# Altium footprint library stratos.PcbLib: 39 footprints (part 1 of 3)
Each footprint in its own frame and in the unit in brackets; x right, y up, seen from the top. Pads: shape width x height; smd on the part's side, far side on the other; paste and mask are expansions set on the pad; w line width, h text height; cw(c..) or ccw(c..) is an arc to the next point about the centre after c.
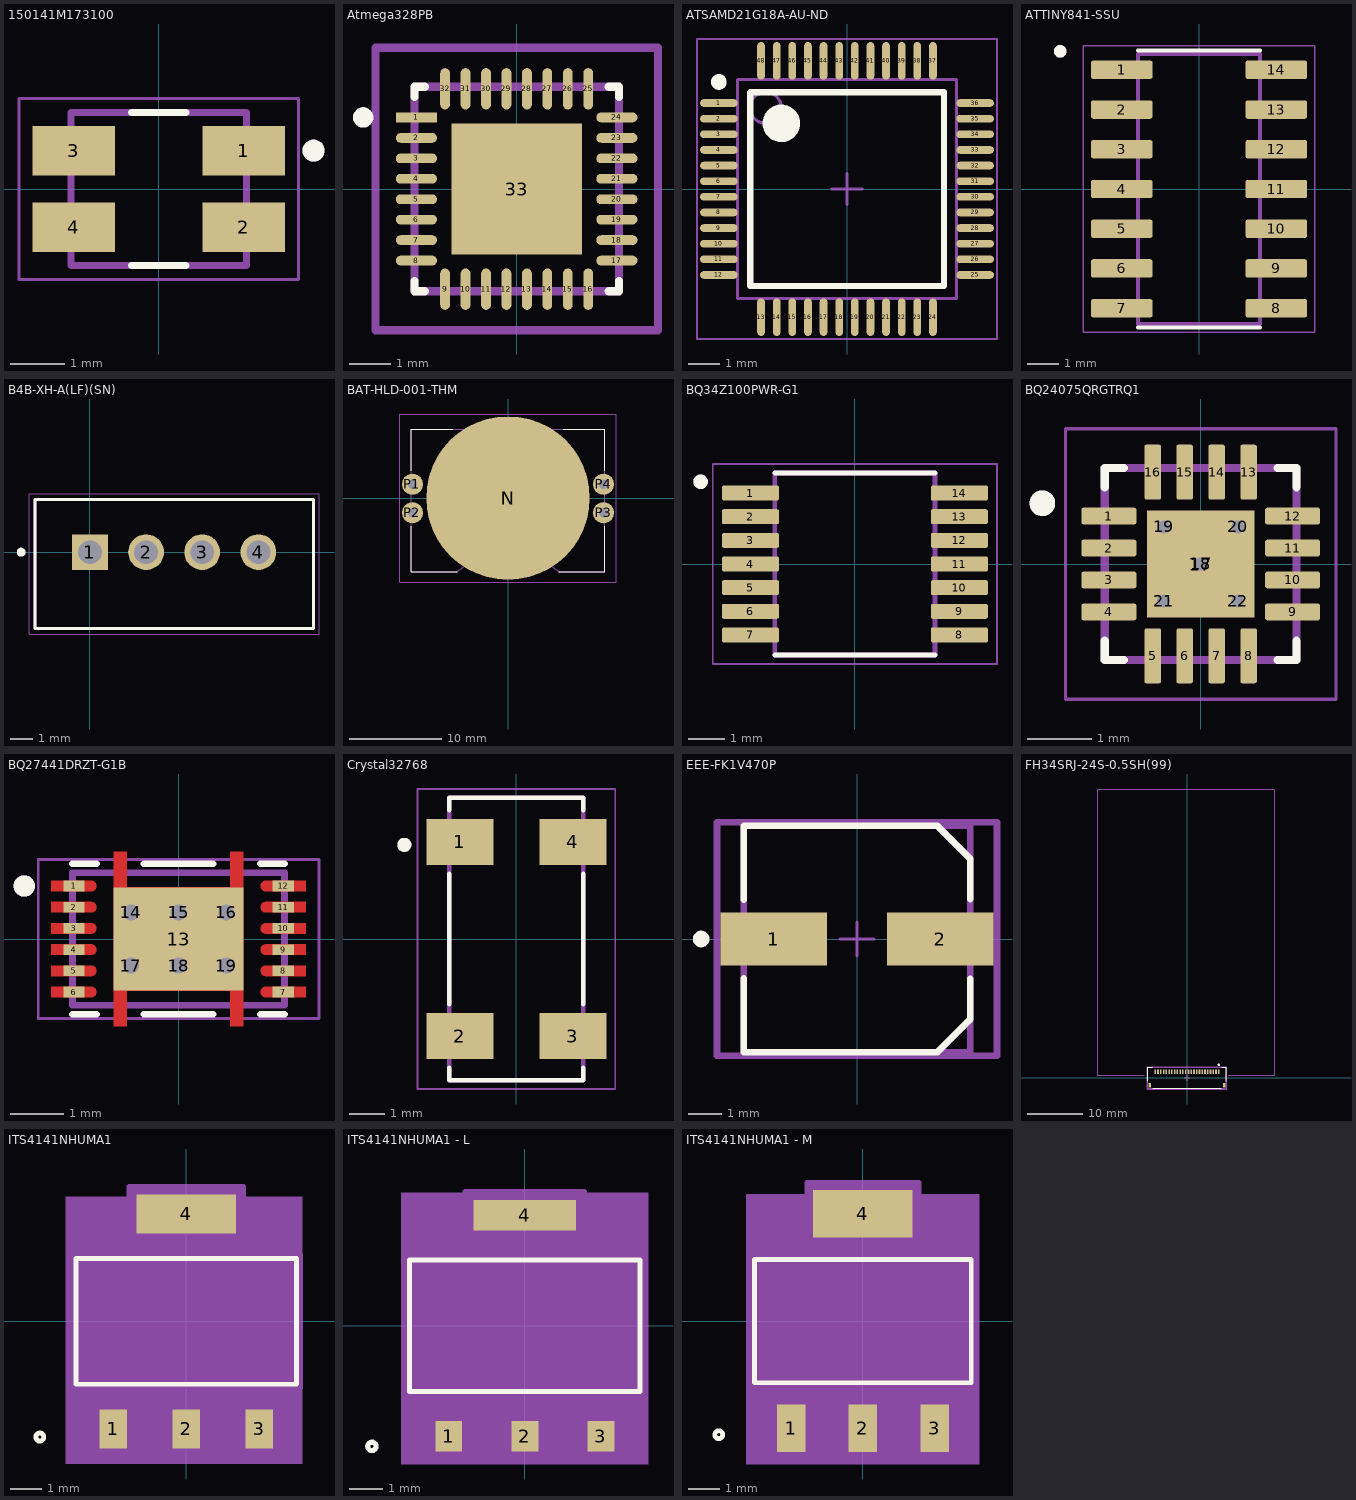
[diagram p0: the footprints below, top view; thin cyan lines are the x and y axes]

## 150141M173100 [mm] "RGB LED 3528 SMD"
pads (4):
  rect 1.5x0.9 smd: 1(1.55,0.7) 2(1.55,-0.7) 3(-1.55,0.7) 4(-1.55,-0.7)
Top Overlay:
  circle w0.2: c2.825,0.7 r0.1
  lines w0.127: -0.5,-1.4 0.5,-1.4 ; -0.5,1.4 0.5,1.4
Mechanical 29:
  circle w0.2: c2.825,0.7 r0.1
  lines w0.127: -1.6,-1.4 -1.6,1.4 1.6,1.4 1.6,-1.4 -1.6,-1.4
Mechanical 15:
  lines w0.05: -2.55,-1.65 2.55,-1.65 2.55,1.65 -2.55,1.65 -2.55,-1.65
3D body "LED_RGB_150141M173100.stp": height 1.86, standoff -0.04, extent -1.75,-1.4 1.75,1.4

## Atmega328PB [mm]
pads (33):
  rect 1.01x0.239 smd paste+0 mask+0: 1(-2.451,1.75)
  rrect100% 1.01x0.239 smd paste+0 mask+0: 2(-2.451,1.25) 3(-2.451,0.75) 4(-2.451,0.25) 5(-2.451,-0.25) 6(-2.451,-0.75) 7(-2.451,-1.25) 8(-2.451,-1.75) 17(2.451,-1.75) 18(2.451,-1.25) 19(2.451,-0.75) 20(2.451,-0.25) 21(2.451,0.25) 22(2.451,0.75) 23(2.451,1.25) 24(2.451,1.75)
  rrect100% 0.239x1.01 smd paste+0 mask+0: 9(-1.75,-2.451) 10(-1.25,-2.451) 11(-0.75,-2.451) 12(-0.25,-2.451) 13(0.25,-2.451) 14(0.75,-2.451) 15(1.25,-2.451) 16(1.75,-2.451) 25(1.75,2.451) 26(1.25,2.451) 27(0.75,2.451) 28(0.25,2.451) 29(-0.25,2.451) 30(-0.75,2.451) 31(-1.25,2.451) 32(-1.75,2.451)
  rect 3.2x3.2 smd paste-1000 mask+0: 33(0,0)
Top Overlay:
  circle w0.25: c-3.756,1.75 r0.125
  lines w0.2: -2.5,-2.25 -2.5,-2.5 -2.25,-2.5 ; -2.5,2.25 -2.5,2.5 -2.25,2.5 ; 2.25,-2.5 2.5,-2.5 2.5,-2.25 ; 2.25,2.5 2.5,2.5 2.5,2.25
Top Paste:
  rectangle: -1.012,-1.012 1.012,1.012
Mechanical 5:
  lines w0.2: -3.456,-3.456 -3.456,3.456 3.456,3.456 3.456,-3.456 -3.456,-3.456
  text ".Designator" at 0,0.188 h1
Mechanical 29:
  lines w0.2: -2.5,-2.5 -2.5,2.5 2.5,2.5 2.5,-2.5 -2.5,-2.5
Mechanical 15:
  lines w0.2: -3.456,-3.456 -3.456,3.456 3.456,3.456 3.456,-3.456 -3.456,-3.456
Mechanical 16:
  lines w0.1: -0.5,0 0.5,0 ; 0,-0.5 0,0.5
3D body "IC_Microchip_ATMEGA328PB-MUR_eec.STEP": height 0.25, standoff 0, extent -3.456,-3.456 3.456,3.456

## ATSAMD21G18A-AU-ND [mm] "IC MCU 32BIT 256KB FLASH 48TQFP"
pads (48):
  oval 1.2x0.25 smd: 1(-4.1,2.75) 2(-4.1,2.25) 3(-4.1,1.75) 4(-4.1,1.25) 5(-4.1,0.75) 6(-4.1,0.25) 7(-4.1,-0.25) 8(-4.1,-0.75) 9(-4.1,-1.25) 10(-4.1,-1.75) 11(-4.1,-2.25) 12(-4.1,-2.75) 25(4.1,-2.75) 26(4.1,-2.25) 27(4.1,-1.75) 28(4.1,-1.25) 29(4.1,-0.75) 30(4.1,-0.25) 31(4.1,0.25) 32(4.1,0.75) 33(4.1,1.25) 34(4.1,1.75) 35(4.1,2.25) 36(4.1,2.75)
  oval 0.25x1.2 smd: 13(-2.75,-4.1) 14(-2.25,-4.1) 15(-1.75,-4.1) 16(-1.25,-4.1) 17(-0.75,-4.1) 18(-0.25,-4.1) 19(0.25,-4.1) 20(0.75,-4.1) 21(1.25,-4.1) 22(1.75,-4.1) 23(2.25,-4.1) 24(2.75,-4.1) 37(2.75,4.1) 38(2.25,4.1) 39(1.75,4.1) 40(1.25,4.1) 41(0.75,4.1) 42(0.25,4.1) 43(-0.25,4.1) 44(-0.75,4.1) 45(-1.25,4.1) 46(-1.75,4.1) 47(-2.25,4.1) 48(-2.75,4.1)
Top Overlay:
  circle w0.6: c-2.1,2.1 r0.3
  circle w0.25: c-4.1,3.425 r0.125
  lines w0.2: -3.1,-3.1 3.1,-3.1 3.1,3.1 -3.1,3.1 -3.1,-3.1
Mechanical 29:
  circle w0.1: c-2.6,2.6 r0.5
  lines w0.1: -3.5,-3.5 3.5,-3.5 3.5,3.5 -3.5,3.5 -3.5,-3.5
Mechanical 15:
  lines w0.05: -4.8,-4.8 4.8,-4.8 4.8,4.8 -4.8,4.8 -4.8,-4.8
  lines w0.1: -0.5,0 0.5,0 ; 0,-0.5 0,0.5
3D body "TSQFP50P900X900X120-48L.step": height 1.2, standoff 0, extent -4.5,-4.5 4.5,4.5

## ATTINY841-SSU [mm] "IC MCU 8BIT 8KB FLASH 14SOIC"
pads (14):
  rrect25% 1.97x0.59 smd: 1(-2.47,3.81) 2(-2.47,2.54) 3(-2.47,1.27) 4(-2.47,0) 5(-2.47,-1.27) 6(-2.47,-2.54) 7(-2.47,-3.81) 8(2.47,-3.81) 9(2.47,-2.54) 10(2.47,-1.27) 11(2.47,0) 12(2.47,1.27) 13(2.47,2.54) 14(2.47,3.81)
Top Overlay:
  circle w0.2: c-4.44,4.4 r0.1
  lines w0.127: -1.947,-4.425 1.947,-4.425 ; -1.947,4.425 1.947,4.425
Mechanical 29:
  circle w0.2: c-4.44,4.4 r0.1
  lines w0.127: -1.947,-4.323 1.947,-4.323 1.947,4.323 -1.947,4.323 -1.947,-4.323
Mechanical 15:
  lines w0.05: -3.705,-4.573 3.705,-4.573 3.705,4.573 -3.705,4.573 -3.705,-4.573
3D body "ATTINY841-SSU--3DModel-STEP-1.STEP": height 1.75, standoff 0, extent -2.997,-4.322 2.998,4.323

## B4B-XH-A(LF)(SN) [mm] "CONN HEADER VERT 4POS 2.5MM"
pads (4):
  rect 1.59x1.59 hole 1.06: 1(0,0)
  round 1.59 hole 1.06: 2(2.5,0) 3(5,0) 4(7.5,0)
Top Overlay:
  circle w0.2: c-3.06,0 r0.1
  lines w0.127: -2.45,-3.4 -2.45,2.35 9.95,2.35 9.95,-3.4 -2.45,-3.4
Mechanical 29:
  lines w0.127: -2.45,-3.4 -2.45,2.35 9.95,2.35 9.95,-3.4 -2.45,-3.4
Mechanical 15:
  lines w0.05: -2.7,-3.65 -2.7,2.6 10.2,2.6 10.2,-3.65 -2.7,-3.65
3D body "step_temp.STEP": height 7, standoff -3.4, extent -2.45,-3.4 9.95,2.35

## BAT-HLD-001-THM [mm] "BATTERY RETAINER COIN PC PIN"
pads (5):
  round 17.8 smd paste-10: N(0,0)
  round 2.3 hole 1: P1(-10.4,1.5) P2(-10.4,-1.6) P3(10.4,-1.6) P4(10.4,1.5)
Top Overlay:
  lines w0.127: -10.55,-3.07 -10.55,-8 -5.5,-8 ; -10.55,2.97 -10.55,7.5 -6,7.5 ; 5.5,-8 10.55,-8 10.55,-3.07 ; 6,7.5 10.55,7.5 10.55,2.97
Mechanical 29:
  lines w0.127: -5.558,-8.048 cw(c0.071,-14.756) 0.071,-6 ; -5.5,-8 -10.55,-8 -10.55,7.5 10.55,7.5 10.55,-8 5.5,-8 ; -0.071,-6 cw(c-0.071,-14.756) 5.558,-8.048
Mechanical 15:
  lines w0.05: -11.8,-9.15 11.8,-9.15 11.8,9.15 -11.8,9.15 -11.8,-9.15
3D body "Batt_Linx_BAT-HLD-001-THM_eec.STEP": height 4.21, standoff -3.19, extent -10.55,-7.529 10.55,7.971

## BQ34Z100PWR-G1 [mm] "Fuel Gauge"
pads (14):
  rrect25% 1.57x0.41 smd: 1(-2.87,1.95) 2(-2.87,1.3) 3(-2.87,0.65) 4(-2.87,0) 5(-2.87,-0.65) 6(-2.87,-1.3) 7(-2.87,-1.95) 8(2.87,-1.95) 9(2.87,-1.3) 10(2.87,-0.65) 11(2.87,0) 12(2.87,0.65) 13(2.87,1.3) 14(2.87,1.95)
Top Overlay:
  circle w0.2: c-4.24,2.26 r0.1
  lines w0.127: -2.2,-2.5 2.2,-2.5 ; -2.2,2.5 2.2,2.5
Mechanical 15:
  lines w0.05: -3.905,-2.75 3.905,-2.75 3.905,2.75 -3.905,2.75 -3.905,-2.75
Mechanical 29 (Mech29):
  circle w0.2: c-4.24,2.26 r0.1
  lines w0.127: -2.2,-2.5 -2.2,2.5 2.2,2.5 2.2,-2.5 -2.2,-2.5
3D body "BQ34Z100PWR-G1.STEP": height 1.2, standoff 0, extent -3.2,-2.5 3.2,2.5

## BQ24075QRGTRQ1 [mm] "Charger IC Lithium Ion 16-VQFN (3x3)"
pads (22):
  rrect25% 0.86x0.26 smd: 1(-1.435,0.75) 2(-1.435,0.25) 3(-1.435,-0.25) 4(-1.435,-0.75) 9(1.435,-0.75) 10(1.435,-0.25) 11(1.435,0.25) 12(1.435,0.75)
  rrect25% 0.26x0.86 smd: 5(-0.75,-1.435) 6(-0.25,-1.435) 7(0.25,-1.435) 8(0.75,-1.435) 13(0.75,1.435) 14(0.25,1.435) 15(-0.25,1.435) 16(-0.75,1.435)
  rect 1.68x1.68 smd paste-2: 17(0,0)
  round 0.4 hole 0.2 mask+0: 18(0,0) 19(-0.58,0.58) 20(0.58,0.58) 21(-0.58,-0.58) 22(0.58,-0.58)
Top Overlay:
  circle w0.2: c-2.475,0.95 r0.1
  lines w0.127: -1.5,-1.2 -1.5,-1.5 -1.2,-1.5 ; -1.5,1.2 -1.5,1.5 -1.2,1.5 ; 1.2,-1.5 1.5,-1.5 1.5,-1.2 ; 1.2,1.5 1.5,1.5 1.5,1.2
Top Paste:
  region: 0.53,-0.53 -0.53,-0.53 -0.53,0.53 0.53,0.53
Mechanical 29:
  circle w0.2: c-2.475,0.95 r0.1
  lines w0.127: -1.5,-1.5 1.5,-1.5 1.5,1.5 -1.5,1.5 -1.5,-1.5
Mechanical 15:
  lines w0.05: -2.115,-2.115 2.115,-2.115 2.115,2.115 -2.115,2.115 -2.115,-2.115
3D body "BQ24075RGTT.STEP": height 1, standoff 0, extent -1.5,-1.5 1.5,1.5

## BQ27441DRZT-G1B [mm] "IC FUEL GAUGE LI-ION 1CELL 12SON"
pads (19):
  rect 0.4x0.2 smd paste-1 mask+0: 1(-1.975,1) 2(-1.975,0.6) 3(-1.975,0.2) 4(-1.975,-0.2) 5(-1.975,-0.6) 6(-1.975,-1) 7(1.975,-1) 8(1.975,-0.6) 9(1.975,-0.2) 10(1.975,0.2) 11(1.975,0.6) 12(1.975,1)
  rect 2.45x1.95 smd paste-2 mask+0: 13(0,0)
  round 0.5 hole 0.3: 14(-0.9,0.5) 15(0,0.5) 16(0.9,0.5) 17(-0.9,-0.5) 18(0,-0.5) 19(0.9,-0.5)
Top Layer:
  region: 1.225,-1.65 0.975,-1.65 0.975,-0.975 -0.975,-0.975 -0.975,-1.65 -1.225,-1.65 -1.225,1.65 -0.975,1.65 -0.975,0.975 0.975,0.975 0.975,1.65 1.225,1.65
  region: -1.645,1.1 -1.64,1.099 -1.634,1.099 -1.629,1.098 -1.624,1.097 -1.619,1.095 -1.614,1.093 -1.609,1.091 -1.605,1.089 -1.6,1.087 -1.596,1.084 -1.591,1.081 -1.587,1.078 -1.583,1.074 -1.579,1.071 -1.576,1.067 -1.572,1.063 -1.569,1.059 -1.566,1.054 -1.563,1.05 -1.561,1.045 -1.559,1.041 -1.557,1.036 -1.555,1.031 -1.553,1.026 -1.552,1.021 -1.551,1.016 -1.551,1.01 -1.55,1.005 -1.55,1 -1.55,0.995 -1.551,0.99 -1.551,0.984 -1.552,0.979 -1.553,0.974 -1.555,0.969 -1.557,0.964 -1.559,0.959 -1.561,0.955 -1.563,0.95 -1.566,0.946 -1.569,0.941 -1.572,0.937 -1.576,0.933 -1.579,0.929 -1.583,0.926 -1.587,0.922 -1.591,0.919 -1.596,0.916 -1.6,0.913 -1.605,0.911 -1.609,0.909 -1.614,0.907 -1.619,0.905 -1.624,0.903 -1.629,0.902 -1.634,0.901 -1.64,0.901 -1.645,0.9 -1.65,0.9 -2.4,0.9 -2.4,1.1 -1.65,1.1
  region: -1.645,0.7 -1.64,0.699 -1.634,0.699 -1.629,0.698 -1.624,0.697 -1.619,0.695 -1.614,0.693 -1.609,0.691 -1.605,0.689 -1.6,0.687 -1.596,0.684 -1.591,0.681 -1.587,0.678 -1.583,0.674 -1.579,0.671 -1.576,0.667 -1.572,0.663 -1.569,0.659 -1.566,0.654 -1.563,0.65 -1.561,0.645 -1.559,0.641 -1.557,0.636 -1.555,0.631 -1.553,0.626 -1.552,0.621 -1.551,0.616 -1.551,0.61 -1.55,0.605 -1.55,0.6 -1.55,0.595 -1.551,0.59 -1.551,0.584 -1.552,0.579 -1.553,0.574 -1.555,0.569 -1.557,0.564 -1.559,0.559 -1.561,0.555 -1.563,0.55 -1.566,0.546 -1.569,0.541 -1.572,0.537 -1.576,0.533 -1.579,0.529 -1.583,0.526 -1.587,0.522 -1.591,0.519 -1.596,0.516 -1.6,0.513 -1.605,0.511 -1.609,0.509 -1.614,0.507 -1.619,0.505 -1.624,0.503 -1.629,0.502 -1.634,0.501 -1.64,0.501 -1.645,0.5 -1.65,0.5 -2.4,0.5 -2.4,0.7 -1.65,0.7
  region: -1.645,0.3 -1.64,0.299 -1.634,0.299 -1.629,0.298 -1.624,0.297 -1.619,0.295 -1.614,0.293 -1.609,0.291 -1.605,0.289 -1.6,0.287 -1.596,0.284 -1.591,0.281 -1.587,0.278 -1.583,0.274 -1.579,0.271 -1.576,0.267 -1.572,0.263 -1.569,0.259 -1.566,0.254 -1.563,0.25 -1.561,0.245 -1.559,0.241 -1.557,0.236 -1.555,0.231 -1.553,0.226 -1.552,0.221 -1.551,0.216 -1.551,0.21 -1.55,0.205 -1.55,0.2 -1.55,0.195 -1.551,0.19 -1.551,0.184 -1.552,0.179 -1.553,0.174 -1.555,0.169 -1.557,0.164 -1.559,0.159 -1.561,0.155 -1.563,0.15 -1.566,0.146 -1.569,0.141 -1.572,0.137 -1.576,0.133 -1.579,0.129 -1.583,0.126 -1.587,0.122 -1.591,0.119 -1.596,0.116 -1.6,0.113 -1.605,0.111 -1.609,0.109 -1.614,0.107 -1.619,0.105 -1.624,0.103 -1.629,0.102 -1.634,0.101 -1.64,0.101 -1.645,0.1 -1.65,0.1 -2.4,0.1 -2.4,0.3 -1.65,0.3
  region: -1.645,-0.1 -1.64,-0.101 -1.634,-0.101 -1.629,-0.102 -1.624,-0.103 -1.619,-0.105 -1.614,-0.107 -1.609,-0.109 -1.605,-0.111 -1.6,-0.113 -1.596,-0.116 -1.591,-0.119 -1.587,-0.122 -1.583,-0.126 -1.579,-0.129 -1.576,-0.133 -1.572,-0.137 -1.569,-0.141 -1.566,-0.146 -1.563,-0.15 -1.561,-0.155 -1.559,-0.159 -1.557,-0.164 -1.555,-0.169 -1.553,-0.174 -1.552,-0.179 -1.551,-0.184 -1.551,-0.19 -1.55,-0.195 -1.55,-0.2 -1.55,-0.205 -1.551,-0.21 -1.551,-0.216 -1.552,-0.221 -1.553,-0.226 -1.555,-0.231 -1.557,-0.236 -1.559,-0.241 -1.561,-0.245 -1.563,-0.25 -1.566,-0.254 -1.569,-0.259 -1.572,-0.263 -1.576,-0.267 -1.579,-0.271 -1.583,-0.274 -1.587,-0.278 -1.591,-0.281 -1.596,-0.284 -1.6,-0.287 -1.605,-0.289 -1.609,-0.291 -1.614,-0.293 -1.619,-0.295 -1.624,-0.297 -1.629,-0.298 -1.634,-0.299 -1.64,-0.299 -1.645,-0.3 -1.65,-0.3 -2.4,-0.3 -2.4,-0.1 -1.65,-0.1
  region: -1.645,-0.5 -1.64,-0.501 -1.634,-0.501 -1.629,-0.502 -1.624,-0.503 -1.619,-0.505 -1.614,-0.507 -1.609,-0.509 -1.605,-0.511 -1.6,-0.513 -1.596,-0.516 -1.591,-0.519 -1.587,-0.522 -1.583,-0.526 -1.579,-0.529 -1.576,-0.533 -1.572,-0.537 -1.569,-0.541 -1.566,-0.546 -1.563,-0.55 -1.561,-0.555 -1.559,-0.559 -1.557,-0.564 -1.555,-0.569 -1.553,-0.574 -1.552,-0.579 -1.551,-0.584 -1.551,-0.59 -1.55,-0.595 -1.55,-0.6 -1.55,-0.605 -1.551,-0.61 -1.551,-0.616 -1.552,-0.621 -1.553,-0.626 -1.555,-0.631 -1.557,-0.636 -1.559,-0.641 -1.561,-0.645 -1.563,-0.65 -1.566,-0.654 -1.569,-0.659 -1.572,-0.663 -1.576,-0.667 -1.579,-0.671 -1.583,-0.674 -1.587,-0.678 -1.591,-0.681 -1.596,-0.684 -1.6,-0.687 -1.605,-0.689 -1.609,-0.691 -1.614,-0.693 -1.619,-0.695 -1.624,-0.697 -1.629,-0.698 -1.634,-0.699 -1.64,-0.699 -1.645,-0.7 -1.65,-0.7 -2.4,-0.7 -2.4,-0.5 -1.65,-0.5
  region: -1.645,-0.9 -1.64,-0.901 -1.634,-0.901 -1.629,-0.902 -1.624,-0.903 -1.619,-0.905 -1.614,-0.907 -1.609,-0.909 -1.605,-0.911 -1.6,-0.913 -1.596,-0.916 -1.591,-0.919 -1.587,-0.922 -1.583,-0.926 -1.579,-0.929 -1.576,-0.933 -1.572,-0.937 -1.569,-0.941 -1.566,-0.946 -1.563,-0.95 -1.561,-0.955 -1.559,-0.959 -1.557,-0.964 -1.555,-0.969 -1.553,-0.974 -1.552,-0.979 -1.551,-0.984 -1.551,-0.99 -1.55,-0.995 -1.55,-1 -1.55,-1.005 -1.551,-1.01 -1.551,-1.016 -1.552,-1.021 -1.553,-1.026 -1.555,-1.031 -1.557,-1.036 -1.559,-1.041 -1.561,-1.045 -1.563,-1.05 -1.566,-1.054 -1.569,-1.059 -1.572,-1.063 -1.576,-1.067 -1.579,-1.071 -1.583,-1.074 -1.587,-1.078 -1.591,-1.081 -1.596,-1.084 -1.6,-1.087 -1.605,-1.089 -1.609,-1.091 -1.614,-1.093 -1.619,-1.095 -1.624,-1.097 -1.629,-1.098 -1.634,-1.099 -1.64,-1.099 -1.645,-1.1 -1.65,-1.1 -2.4,-1.1 -2.4,-0.9 -1.65,-0.9
  region: 2.4,-1.1 1.65,-1.1 1.645,-1.1 1.64,-1.099 1.634,-1.099 1.629,-1.098 1.624,-1.097 1.619,-1.095 1.614,-1.093 1.609,-1.091 1.605,-1.089 1.6,-1.087 1.596,-1.084 1.591,-1.081 1.587,-1.078 1.583,-1.074 1.579,-1.071 1.576,-1.067 1.572,-1.063 1.569,-1.059 1.566,-1.054 1.563,-1.05 1.561,-1.045 1.559,-1.041 1.557,-1.036 1.555,-1.031 1.553,-1.026 1.552,-1.021 1.551,-1.016 1.551,-1.01 1.55,-1.005 1.55,-1 1.55,-0.995 1.551,-0.99 1.551,-0.984 1.552,-0.979 1.553,-0.974 1.555,-0.969 1.557,-0.964 1.559,-0.959 1.561,-0.955 1.563,-0.95 1.566,-0.946 1.569,-0.941 1.572,-0.937 1.576,-0.933 1.579,-0.929 1.583,-0.926 1.587,-0.922 1.591,-0.919 1.596,-0.916 1.6,-0.913 1.605,-0.911 1.609,-0.909 1.614,-0.907 1.619,-0.905 1.624,-0.903 1.629,-0.902 1.634,-0.901 1.64,-0.901 1.645,-0.9 1.65,-0.9 2.4,-0.9
  region: 2.4,-0.7 1.65,-0.7 1.645,-0.7 1.64,-0.699 1.634,-0.699 1.629,-0.698 1.624,-0.697 1.619,-0.695 1.614,-0.693 1.609,-0.691 1.605,-0.689 1.6,-0.687 1.596,-0.684 1.591,-0.681 1.587,-0.678 1.583,-0.674 1.579,-0.671 1.576,-0.667 1.572,-0.663 1.569,-0.659 1.566,-0.654 1.563,-0.65 1.561,-0.645 1.559,-0.641 1.557,-0.636 1.555,-0.631 1.553,-0.626 1.552,-0.621 1.551,-0.616 1.551,-0.61 1.55,-0.605 1.55,-0.6 1.55,-0.595 1.551,-0.59 1.551,-0.584 1.552,-0.579 1.553,-0.574 1.555,-0.569 1.557,-0.564 1.559,-0.559 1.561,-0.555 1.563,-0.55 1.566,-0.546 1.569,-0.541 1.572,-0.537 1.576,-0.533 1.579,-0.529 1.583,-0.526 1.587,-0.522 1.591,-0.519 1.596,-0.516 1.6,-0.513 1.605,-0.511 1.609,-0.509 1.614,-0.507 1.619,-0.505 1.624,-0.503 1.629,-0.502 1.634,-0.501 1.64,-0.501 1.645,-0.5 1.65,-0.5 2.4,-0.5
  region: 2.4,-0.3 1.65,-0.3 1.645,-0.3 1.64,-0.299 1.634,-0.299 1.629,-0.298 1.624,-0.297 1.619,-0.295 1.614,-0.293 1.609,-0.291 1.605,-0.289 1.6,-0.287 1.596,-0.284 1.591,-0.281 1.587,-0.278 1.583,-0.274 1.579,-0.271 1.576,-0.267 1.572,-0.263 1.569,-0.259 1.566,-0.254 1.563,-0.25 1.561,-0.245 1.559,-0.241 1.557,-0.236 1.555,-0.231 1.553,-0.226 1.552,-0.221 1.551,-0.216 1.551,-0.21 1.55,-0.205 1.55,-0.2 1.55,-0.195 1.551,-0.19 1.551,-0.184 1.552,-0.179 1.553,-0.174 1.555,-0.169 1.557,-0.164 1.559,-0.159 1.561,-0.155 1.563,-0.15 1.566,-0.146 1.569,-0.141 1.572,-0.137 1.576,-0.133 1.579,-0.129 1.583,-0.126 1.587,-0.122 1.591,-0.119 1.596,-0.116 1.6,-0.113 1.605,-0.111 1.609,-0.109 1.614,-0.107 1.619,-0.105 1.624,-0.103 1.629,-0.102 1.634,-0.101 1.64,-0.101 1.645,-0.1 1.65,-0.1 2.4,-0.1
  region: 2.4,0.1 1.65,0.1 1.645,0.1 1.64,0.101 1.634,0.101 1.629,0.102 1.624,0.103 1.619,0.105 1.614,0.107 1.609,0.109 1.605,0.111 1.6,0.113 1.596,0.116 1.591,0.119 1.587,0.122 1.583,0.126 1.579,0.129 1.576,0.133 1.572,0.137 1.569,0.141 1.566,0.146 1.563,0.15 1.561,0.155 1.559,0.159 1.557,0.164 1.555,0.169 1.553,0.174 1.552,0.179 1.551,0.184 1.551,0.19 1.55,0.195 1.55,0.2 1.55,0.205 1.551,0.21 1.551,0.216 1.552,0.221 1.553,0.226 1.555,0.231 1.557,0.236 1.559,0.241 1.561,0.245 1.563,0.25 1.566,0.254 1.569,0.259 1.572,0.263 1.576,0.267 1.579,0.271 1.583,0.274 1.587,0.278 1.591,0.281 1.596,0.284 1.6,0.287 1.605,0.289 1.609,0.291 1.614,0.293 1.619,0.295 1.624,0.297 1.629,0.298 1.634,0.299 1.64,0.299 1.645,0.3 1.65,0.3 2.4,0.3
  region: 2.4,0.5 1.65,0.5 1.645,0.5 1.64,0.501 1.634,0.501 1.629,0.502 1.624,0.503 1.619,0.505 1.614,0.507 1.609,0.509 1.605,0.511 1.6,0.513 1.596,0.516 1.591,0.519 1.587,0.522 1.583,0.526 1.579,0.529 1.576,0.533 1.572,0.537 1.569,0.541 1.566,0.546 1.563,0.55 1.561,0.555 1.559,0.559 1.557,0.564 1.555,0.569 1.553,0.574 1.552,0.579 1.551,0.584 1.551,0.59 1.55,0.595 1.55,0.6 1.55,0.605 1.551,0.61 1.551,0.616 1.552,0.621 1.553,0.626 1.555,0.631 1.557,0.636 1.559,0.641 1.561,0.645 1.563,0.65 1.566,0.654 1.569,0.659 1.572,0.663 1.576,0.667 1.579,0.671 1.583,0.674 1.587,0.678 1.591,0.681 1.596,0.684 1.6,0.687 1.605,0.689 1.609,0.691 1.614,0.693 1.619,0.695 1.624,0.697 1.629,0.698 1.634,0.699 1.64,0.699 1.645,0.7 1.65,0.7 2.4,0.7
  region: 2.4,0.9 1.65,0.9 1.645,0.9 1.64,0.901 1.634,0.901 1.629,0.902 1.624,0.903 1.619,0.905 1.614,0.907 1.609,0.909 1.605,0.911 1.6,0.913 1.596,0.916 1.591,0.919 1.587,0.922 1.583,0.926 1.579,0.929 1.576,0.933 1.572,0.937 1.569,0.941 1.566,0.946 1.563,0.95 1.561,0.955 1.559,0.959 1.557,0.964 1.555,0.969 1.553,0.974 1.552,0.979 1.551,0.984 1.551,0.99 1.55,0.995 1.55,1 1.55,1.005 1.551,1.01 1.551,1.016 1.552,1.021 1.553,1.026 1.555,1.031 1.557,1.036 1.559,1.041 1.561,1.045 1.563,1.05 1.566,1.054 1.569,1.059 1.572,1.063 1.576,1.067 1.579,1.071 1.583,1.074 1.587,1.078 1.591,1.081 1.596,1.084 1.6,1.087 1.605,1.089 1.609,1.091 1.614,1.093 1.619,1.095 1.624,1.097 1.629,1.098 1.634,1.099 1.64,1.099 1.645,1.1 1.65,1.1 2.4,1.1
Top Overlay:
  circle w0.2: c-2.91,1 r0.1
  lines w0.127: -2,-1.42 -1.545,-1.42 ; -2,1.42 -1.545,1.42 ; -0.655,-1.42 0.655,-1.42 ; -0.655,1.42 0.655,1.42 ; 1.545,-1.42 2,-1.42 ; 1.545,1.42 2,1.42
Top Paste:
  drawing of 22 lines, arcs and shapes, not listed
Top Solder:
  drawing of 13 lines, arcs and shapes, not listed
Mechanical 29:
  circle w0.2: c-2.91,1 r0.1
  lines w0.127: -2,-1.25 2,-1.25 2,1.25 -2,1.25 -2,-1.25
Mechanical 15:
  lines w0.05: -2.65,-1.5 2.65,-1.5 2.65,1.5 -2.65,1.5 -2.65,-1.5
3D body "BQ27441DRZT-G1B.STEP": height 0.95, standoff 0, extent -2.05,-1.25 2.05,1.25

## CR2032 BATT [mm] "CR2032 Coin batt"
3D body "BATT CR2032.STEP": height 0, standoff -3.2, extent -10,-10 10,10

## Crystal32768 [mm]
pads (4):
  rect 1.9x1.3 smd: 1(-1.6,2.75) 2(-1.6,-2.75) 3(1.6,-2.75) 4(1.6,2.75)
Top Overlay:
  circle w0.2: c-3.175,2.667 r0.1
  lines w0.127: -1.9,-3.65 -1.9,-4 1.9,-4 1.9,-3.65 ; -1.9,-1.85 -1.9,1.85 ; -1.9,3.65 -1.9,4 1.9,4 1.9,3.65 ; 1.9,-1.85 1.9,1.85
Mechanical 29:
  circle w0.2: c-3.175,2.667 r0.1
  lines w0.127: -1.9,-4 1.9,-4 1.9,4 -1.9,4 -1.9,-4
Mechanical 15:
  lines w0.05: -2.8,-4.25 2.8,-4.25 2.8,4.25 -2.8,4.25 -2.8,-4.25
3D body "32768_CRYSTAL.STEP": height 2.53, standoff 0, extent -1.937,-4.039 1.863,3.961

## EEE-FK1V470P [mm] "CAP ALUM 47UF 20% 35V SMD"
pads (2):
  rect 3.2x1.6 smd paste+0 mask+0: 1(-2.5,0) 2(2.5,0)
Top Overlay:
  circle w0.25: c-4.675,0 r0.125
  lines w0.2: -3.4,-1.175 -3.4,-3.4 2.4,-3.4 3.4,-2.4 3.4,-1.2 ; -3.4,1.175 -3.4,3.4 2.4,3.4 3.4,2.4 3.4,1.2
Mechanical 5:
  lines w0.2: -4.2,-3.5 -4.2,3.5 4.2,3.5 4.2,-3.5 -4.2,-3.5
  text ".Designator" at 0,0.188 h1
Mechanical 29:
  lines w0.2: -3.4,-3.4 -3.4,3.4 3.4,3.4 3.4,-3.4 -3.4,-3.4
Mechanical 15:
  lines w0.2: -4.2,-3.5 -4.2,3.5 4.2,3.5 4.2,-3.5 -4.2,-3.5
Mechanical 16:
  lines w0.1: -0.5,0 0.5,0 ; 0,-0.5 0,0.5
3D body "Cap_Panasonic_EEE-FK1V470P_eec.STEP": height 0.25, standoff 0, extent -4.2,-3.5 4.2,3.5

## FH34SRJ-24S-0.5SH(99) [mm] "CONN FPC/FFC 24POS .5MM"
pads (26):
  rect 0.3x0.8 smd paste-1000 mask+0: 1(5.75,1.15) 2(5.25,1.15) 3(4.75,1.15) 4(4.25,1.15) 5(3.75,1.15) 6(3.25,1.15) 7(2.75,1.15) 8(2.25,1.15) 9(1.75,1.15) 10(1.25,1.15) 11(0.75,1.15) 12(0.25,1.15) 13(-0.25,1.15) 14(-0.75,1.15) 15(-1.25,1.15) 16(-1.75,1.15) 17(-2.25,1.15) 18(-2.75,1.15) 19(-3.25,1.15) 20(-3.75,1.15) 21(-4.25,1.15) 22(-4.75,1.15) 23(-5.25,1.15) 24(-5.75,1.15)
  rect 0.4x0.8 smd paste+0 mask+0: 25(-6.75,-1.35) 26(6.75,-1.35)
Top Overlay:
  circle w0.25: c5.75,2.375 r0.125
  lines w0.2: -7.075,-0.575 -7.075,1.9 -6.275,1.9 ; -6.175,-1.9 6.175,-1.9 ; 6.275,1.9 7.075,1.9 7.075,-0.575
Top Paste:
  rectangle: -5.875,0.9 -5.625,1.55
  rectangle: -5.375,0.9 -5.125,1.55
  rectangle: -4.875,0.9 -4.625,1.55
  rectangle: -4.375,0.9 -4.125,1.55
  rectangle: -3.875,0.9 -3.625,1.55
  rectangle: -3.375,0.9 -3.125,1.55
  rectangle: -2.875,0.9 -2.625,1.55
  rectangle: -2.375,0.9 -2.125,1.55
  rectangle: -1.875,0.9 -1.625,1.55
  rectangle: -1.375,0.9 -1.125,1.55
  rectangle: -0.875,0.9 -0.625,1.55
  rectangle: -0.375,0.9 -0.125,1.55
  rectangle: 0.125,0.9 0.375,1.55
  rectangle: 0.625,0.9 0.875,1.55
  rectangle: 1.125,0.9 1.375,1.55
  rectangle: 1.625,0.9 1.875,1.55
  rectangle: 2.125,0.9 2.375,1.55
  rectangle: 2.625,0.9 2.875,1.55
  rectangle: 3.125,0.9 3.375,1.55
  rectangle: 3.625,0.9 3.875,1.55
  rectangle: 4.125,0.9 4.375,1.55
  rectangle: 4.625,0.9 4.875,1.55
  rectangle: 5.125,0.9 5.375,1.55
  rectangle: 5.625,0.9 5.875,1.55
Mechanical 3:
  lines w0.2: -7.747,0.508 -16.256,0.508 -16.256,52.324 15.875,52.324 15.875,0.508 7.493,0.508
Mechanical 5:
  lines w0.2: -7.175,-2 7.175,-2 7.175,2 -7.175,2 -7.175,-2
  text ".Designator" at 0,-0.001 h1
Mechanical 29:
  lines w0.2: -7.075,-1.9 7.075,-1.9 7.075,1.9 -7.075,1.9 -7.075,-1.9
Mechanical 15:
  lines w0.2: -7.175,-2 7.175,-2 7.175,2 -7.175,2 -7.175,-2
Mechanical 16:
  lines w0.1: -0.5,0 0.5,0 ; 0,-0.5 0,0.5
3D body "Conn_Hirose_FH34SRJ-24S-0_5SH_99_eec.STEP": height 0.25, standoff 0, extent -7.175,-2 7.175,2
3D body "Waveshare 1.54 (B) E ink - Display Flat Mount.stp": height 1.64, standoff 0.5, extent -16.113,0.726 15.713,52.161

## ITS4141NHUMA1 [mil] "IC PWR SWTCH N-CHAN 1:1 SOT223-4"
pads (4):
  rect 34x48 smd paste+0 mask+0: 1(-90.55,-133.5) 2(0,-133.5) 3(90.55,-133.5)
  rect 124x48 smd paste+0 mask+0: 4(0,133.5)
Top Overlay:
  circle w6: c-182,-143.5 r5
  lines w6: -137,-78 -137,78 137,78 137,-78 -137,-78
Mechanical 5:
  region: -150,155 144,155 144,-177 -150,-177
Mechanical 29:
  circle w0: c-122,-63 r5
  lines w1: -132,-73 -132,73 132,73 132,-73 -132,-73 ; -106.55,-143.5 -74.55,-143.5 -74.55,-73 -106.55,-73 -106.55,-143.5 ; -61,73 -61,143.5 61,143.5 61,73 -61,73 ; -16,-143.5 16,-143.5 16,-73 -16,-73 -16,-143.5 ; 74.55,-143.5 106.55,-143.5 106.55,-73 74.55,-73 74.55,-143.5
Mechanical 15:
  region: -142,-83 -142,83 -71,83 -71,167.5 71,167.5 71,83 142,83 142,-83 116.55,-83 116.55,-167.5 -116.55,-167.5 -116.55,-83
  lines w6: -142,-83 -116.55,-83 -116.55,-167.5 116.55,-167.5 116.55,-83 142,-83 142,83 71,83 71,167.5 -71,167.5 -71,83 -142,83 -142,-83
3D body "PG-SOT223_INF.step": height 67.09, standoff 0, extent -132,-143.5 132.01,143.51
3D body: height 10, standoff 0, extent 0,0 10,10

## ITS4141NHUMA1 - L [mil] "IC PWR SWTCH N-CHAN 1:1 SOT223-4"
pads (4):
  rect 32x36 smd paste+0 mask+0: 1(-90.55,-131.5) 2(0,-131.5) 3(90.55,-131.5)
  rect 122x36 smd paste+0 mask+0: 4(0,131.5)
Top Overlay:
  circle w6: c-182,-143.5 r5
  lines w6: -137,-78 -137,78 137,78 137,-78 -137,-78
Mechanical 5:
  region: -147,158.5 147,158.5 147,-164.5 -147,-164.5
Mechanical 29:
  circle w0: c-122,-63 r5
  lines w1: -132,-73 -132,73 132,73 132,-73 -132,-73 ; -106.55,-143.5 -74.55,-143.5 -74.55,-73 -106.55,-73 -106.55,-143.5 ; -61,73 -61,143.5 61,143.5 61,73 -61,73 ; -16,-143.5 16,-143.5 16,-73 -16,-73 -16,-143.5 ; 74.55,-143.5 106.55,-143.5 106.55,-73 74.55,-73 74.55,-143.5
Mechanical 15:
  region: -142,-83 -142,83 -71,83 -71,159.5 71,159.5 71,83 142,83 142,-83 116.55,-83 116.55,-159.5 -116.55,-159.5 -116.55,-83
  lines w6: -142,-83 -116.55,-83 -116.55,-159.5 116.55,-159.5 116.55,-83 142,-83 142,83 71,83 71,159.5 -71,159.5 -71,83 -142,83 -142,-83
3D body "PG-SOT223_INF.step": height 67.09, standoff 0, extent -132,-143.5 132.01,143.51
3D body: height 10, standoff 0, extent 0,0 10,10

## ITS4141NHUMA1 - M [mil] "IC PWR SWTCH N-CHAN 1:1 SOT223-4"
pads (4):
  rect 36x60 smd paste+0 mask+0: 1(-90.55,-135.5) 2(0,-135.5) 3(90.55,-135.5)
  rect 126x60 smd paste+0 mask+0: 4(0,135.5)
Top Overlay:
  circle w6: c-182,-143.5 r5
  lines w6: -137,-78 137,-78 137,78 -137,78 -137,-78
Mechanical 5:
  region: -147,160.5 147,160.5 147,-180.5 -147,-180.5
Mechanical 29:
  circle w0: c-122,-63 r5
  lines w1: -132,-73 132,-73 132,73 -132,73 -132,-73 ; -106.55,-143.5 -106.55,-73 -74.55,-73 -74.55,-143.5 -106.55,-143.5 ; -61,73 61,73 61,143.5 -61,143.5 -61,73 ; -16,-143.5 -16,-73 16,-73 16,-143.5 -16,-143.5 ; 74.55,-143.5 74.55,-73 106.55,-73 106.55,-143.5 74.55,-143.5
Mechanical 15:
  region: -142,-83 -142,83 -71,83 -71,175.5 71,175.5 71,83 142,83 142,-83 116.55,-83 116.55,-175.5 -116.55,-175.5 -116.55,-83
  lines w6: -142,-83 -142,83 -71,83 -71,175.5 71,175.5 71,83 142,83 142,-83 116.55,-83 116.55,-175.5 -116.55,-175.5 -116.55,-83 -142,-83
3D body "PG-SOT223_INF.step": height 67.09, standoff 0, extent -132,-143.5 132.01,143.51
3D body: height 10, standoff 0, extent 0,0 10,10